# EAGLE library part MEGASHIELD (library arduino)
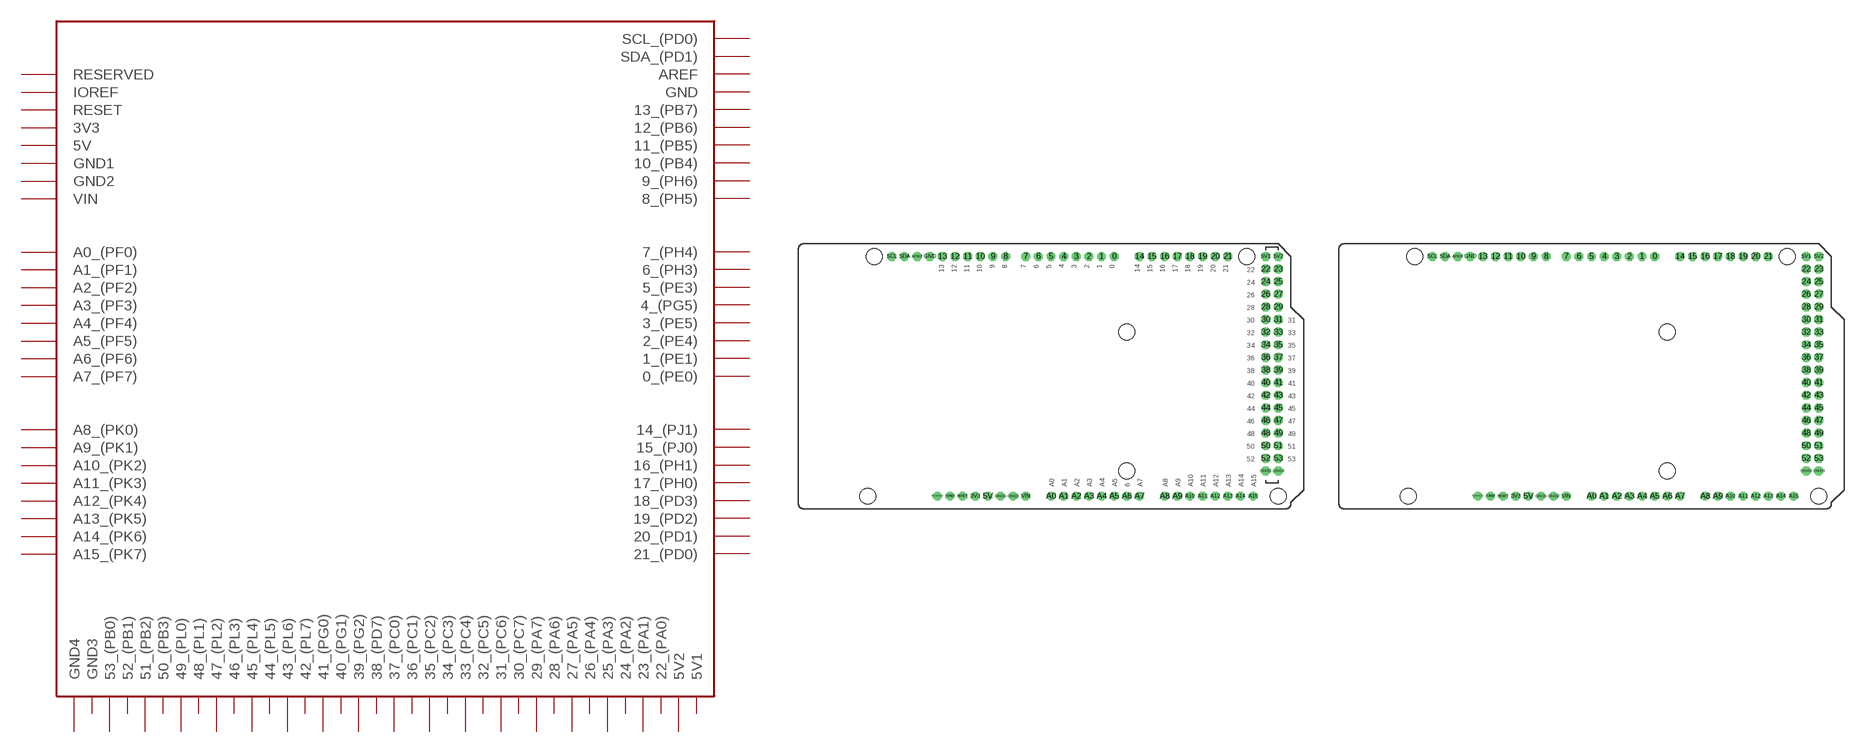
[diagram p0: symbol with the pads of MEGASHIELD; footprints MEGASHIELD, MEGASHIELD_NO_LABELS]

Designator prefix -

## MEGASHIELD  [MEGASHIELD]
0  0_(PE0)
1  1_(PE1)
2  2_(PE4)
3  3_(PE5)
3V3  3V3
4  4_(PG5)
5  5_(PE3)
5V  5V
5V1  5V1
5V2  5V2
6  6_(PH3)
7  7_(PH4)
8  8_(PH5)
9  9_(PH6)
10  10_(PB4)
11  11_(PB5)
12  12_(PB6)
13  13_(PB7)
14  14_(PJ1)
15  15_(PJ0)
16  16_(PH1)
17  17_(PH0)
18  18_(PD3)
19  19_(PD2)
20  20_(PD1)
21  21_(PD0)
22  22_(PA0)
23  23_(PA1)
24  24_(PA2)
25  25_(PA3)
26  26_(PA4)
27  27_(PA5)
28  28_(PA6)
29  29_(PA7)
30  30_(PC7)
31  31_(PC6)
32  32_(PC5)
33  33_(PC4)
34  34_(PC3)
35  35_(PC2)
36  36_(PC1)
37  37_(PC0)
38  38_(PD7)
39  39_(PG2)
40  40_(PG1)
41  41_(PG0)
42  42_(PL7)
43  43_(PL6)
44  44_(PL5)
45  45_(PL4)
46  46_(PL3)
47  47_(PL2)
48  48_(PL1)
49  49_(PL0)
50  50_(PB3)
51  51_(PB2)
52  52_(PB1)
53  53_(PB0)
A0  A0_(PF0)
A1  A1_(PF1)
A2  A2_(PF2)
A3  A3_(PF3)
A4  A4_(PF4)
A5  A5_(PF5)
A6  A6_(PF6)
A7  A7_(PF7)
A8  A8_(PK0)
A9  A9_(PK1)
A10  A10_(PK2)
A11  A11_(PK3)
A12  A12_(PK4)
A13  A13_(PK5)
A14  A14_(PK6)
A15  A15_(PK7)
AREF  AREF
GND  GND
GND1  GND1
GND2  GND2
GND3  GND3
GND4  GND4
IOREF  IOREF
RESERVED  RESERVED
RESET  RESET
SCL  SCL_(PD0)
SDA  SDA_(PD1)
VIN  VIN

## MEGASHIELDNO_LABEL  [MEGASHIELD_NO_LABELS]
Pads as for MEGASHIELD

## Footprint MEGASHIELD (pad centres in mm)
drill 1.2 octagon: 0 63.5,50.8; 1 60.96,50.8; 2 58.42,50.8; 3 55.88,50.8; 3V3 35.56,2.54; 4 53.34,50.8; 5 50.8,50.8; 5V 38.1,2.54; 5V1 93.98,50.8; 5V2 96.52,50.8; 6 48.26,50.8; 7 45.72,50.8; 8 41.656,50.8; 9 39.116,50.8; 10 36.576,50.8; 11 34.036,50.8; 12 31.496,50.8; 13 28.956,50.8; 14 68.58,50.8; 15 71.12,50.8; 16 73.66,50.8; 17 76.2,50.8; 18 78.74,50.8; 19 81.28,50.8; 20 83.82,50.8; 21 86.36,50.8; 22 93.98,48.26; 23 96.52,48.26; 24 93.98,45.72; 25 96.52,45.72; 26 93.98,43.18; 27 96.52,43.18; 28 93.98,40.64; 29 96.52,40.64; 30 93.98,38.1; 31 96.52,38.1; 32 93.98,35.56; 33 96.52,35.56; 34 93.98,33.02; 35 96.52,33.02; 36 93.98,30.48; 37 96.52,30.48; 38 93.98,27.94; 39 96.52,27.94; 40 93.98,25.4; 41 96.52,25.4; 42 93.98,22.86; 43 96.52,22.86; 44 93.98,20.32; 45 96.52,20.32; 46 93.98,17.78; 47 96.52,17.78; 48 93.98,15.24; 49 96.52,15.24; 50 93.98,12.7; 51 96.52,12.7; 52 93.98,10.16; 53 96.52,10.16; A0 50.8,2.54; A1 53.34,2.54; A2 55.88,2.54; A3 58.42,2.54; A4 60.96,2.54; A5 63.5,2.54; A6 66.04,2.54; A7 68.58,2.54; A8 73.66,2.54; A9 76.2,2.54; A10 78.74,2.54; A11 81.28,2.54; A12 83.82,2.54; A13 86.36,2.54; A14 88.9,2.54; A15 91.44,2.54; AREF 23.876,50.8; GND 26.416,50.8; GND1 40.64,2.54; GND2 43.18,2.54; GND3 93.98,7.62; GND4 96.52,7.62; IOREF 30.48,2.54; RESERVED 27.94,2.54; RESET 33.02,2.54; SCL 18.796,50.8; SDA 21.336,50.8; VIN 45.72,2.54
hole 3.2 at 96.52,2.54
hole 3.2 at 15.24,50.8
hole 3.2 at 90.17,50.8
hole 3.2 at 13.97,2.54
hole 3.2 at 66.04,35.56
hole 3.2 at 66.04,7.62

## Footprint MEGASHIELD_NO_LABELS (pad centres in mm)
drill 1.2 octagon: 0 63.5,50.8; 1 60.96,50.8; 2 58.42,50.8; 3 55.88,50.8; 3V3 35.56,2.54; 4 53.34,50.8; 5 50.8,50.8; 5V 38.1,2.54; 5V1 93.98,50.8; 5V2 96.52,50.8; 6 48.26,50.8; 7 45.72,50.8; 8 41.656,50.8; 9 39.116,50.8; 10 36.576,50.8; 11 34.036,50.8; 12 31.496,50.8; 13 28.956,50.8; 14 68.58,50.8; 15 71.12,50.8; 16 73.66,50.8; 17 76.2,50.8; 18 78.74,50.8; 19 81.28,50.8; 20 83.82,50.8; 21 86.36,50.8; 22 93.98,48.26; 23 96.52,48.26; 24 93.98,45.72; 25 96.52,45.72; 26 93.98,43.18; 27 96.52,43.18; 28 93.98,40.64; 29 96.52,40.64; 30 93.98,38.1; 31 96.52,38.1; 32 93.98,35.56; 33 96.52,35.56; 34 93.98,33.02; 35 96.52,33.02; 36 93.98,30.48; 37 96.52,30.48; 38 93.98,27.94; 39 96.52,27.94; 40 93.98,25.4; 41 96.52,25.4; 42 93.98,22.86; 43 96.52,22.86; 44 93.98,20.32; 45 96.52,20.32; 46 93.98,17.78; 47 96.52,17.78; 48 93.98,15.24; 49 96.52,15.24; 50 93.98,12.7; 51 96.52,12.7; 52 93.98,10.16; 53 96.52,10.16; A0 50.8,2.54; A1 53.34,2.54; A2 55.88,2.54; A3 58.42,2.54; A4 60.96,2.54; A5 63.5,2.54; A6 66.04,2.54; A7 68.58,2.54; A8 73.66,2.54; A9 76.2,2.54; A10 78.74,2.54; A11 81.28,2.54; A12 83.82,2.54; A13 86.36,2.54; A14 88.9,2.54; A15 91.44,2.54; AREF 23.876,50.8; GND 26.416,50.8; GND1 40.64,2.54; GND2 43.18,2.54; GND3 93.98,7.62; GND4 96.52,7.62; IOREF 30.48,2.54; RESERVED 27.94,2.54; RESET 33.02,2.54; SCL 18.796,50.8; SDA 21.336,50.8; VIN 45.72,2.54
hole 3.2 at 96.52,2.54
hole 3.2 at 15.24,50.8
hole 3.2 at 90.17,50.8
hole 3.2 at 13.97,2.54
hole 3.2 at 66.04,35.56
hole 3.2 at 66.04,7.62